# EAGLE library part SOC16X2 (library omcSocket)
SOC16X2 - two columns 16-pin socket/fooprint 16 pins 2 columns 8 pins per column Distributor Reichelt: - Conrad: - Digi-Key: -
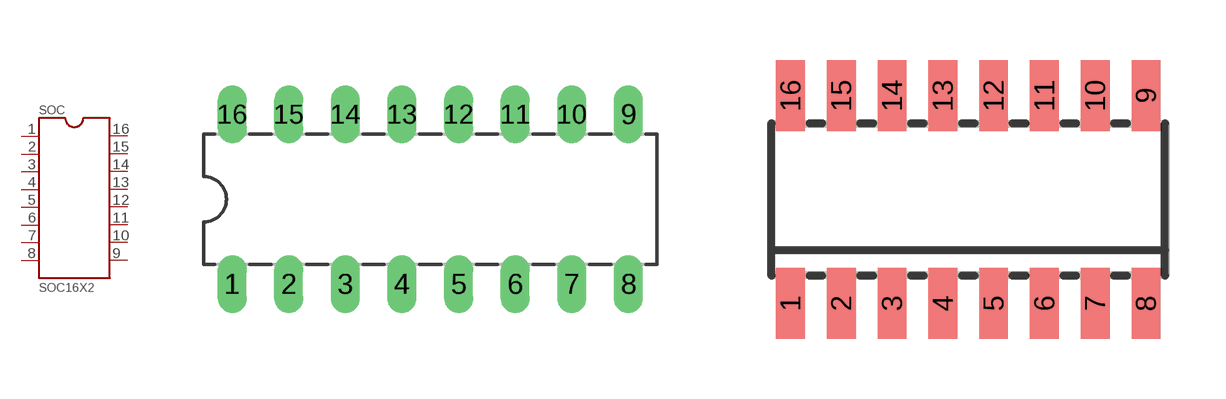
[diagram p2: symbol with the pads of DIL16; footprints DIL16, SOIC16]

Designator prefix SOC

## SOC16X2-DIL  [DIL16]
1  1
2  2
3  3
4  4
5  5
6  6
7  7
8  8
9  9
10  10
11  11
12  12
13  13
14  14
15  15
16  16

## SOC16X2-SOIC  [SOIC16]
Pads as for DIL16

## Footprint DIL16 (pad centres in mm)
DIL16 THT Dual-in-line package 19.94mm×7.62mm Wikipedia <https://en.wikipedia.org/wiki/Dual_in-line_package>
drill 0.8 long: 1 -8.89,-3.81; 2 -6.35,-3.81; 3 -3.81,-3.81; 4 -1.27,-3.81; 5 1.27,-3.81; 6 3.81,-3.81; 7 6.35,-3.81; 8 8.89,-3.81; 9 8.89,3.81; 10 6.35,3.81; 11 3.81,3.81; 12 1.27,3.81; 13 -1.27,3.81; 14 -3.81,3.81; 15 -6.35,3.81; 16 -8.89,3.81

## Footprint SOIC16 (pad centres in mm)
SOIC16 SMD 9.8mm×6.2mm Mechanical <https://www.centralsemi.com/PDFs/case/SOIC-16PD.PDF> Wikipedia <https://en.wikipedia.org/wiki/Small_Outline_Integrated_Circuit>
smd 0.72 x 1.78: 1 -4.445,-2.6; 2 -3.175,-2.6; 3 -1.905,-2.6; 4 -0.635,-2.6; 5 0.635,-2.6; 6 1.905,-2.6; 7 3.175,-2.6; 8 4.445,-2.6; 9 4.445,2.6; 10 3.175,2.6; 11 1.905,2.6; 12 0.635,2.6; 13 -0.635,2.6; 14 -1.905,2.6; 15 -3.175,2.6; 16 -4.445,2.6